# EAGLE library part DW1000-I (library DW1000-I)
The DW1000 is a fully integrated single chip Ultra Wideband (UWB) low-power low-cost transceiver IC compliant to IEEE802.15.4-2011. It can be used in 2-way ranging or TDOA location systems to locate assets to a precision of 10 cm. It also supports data transfer at rates up to 6.8 Mbps
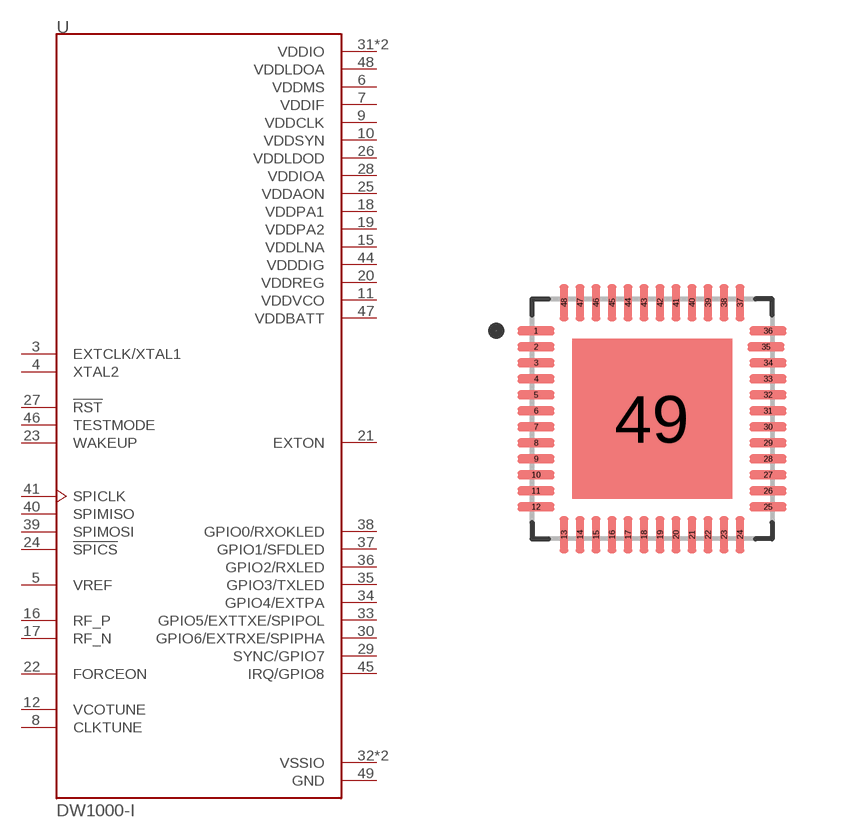
[diagram p0: symbol with the pads of QFN40P600X600X90-49N; footprint QFN40P600X600X90-49N]

Designator prefix U

## DW1000-I (Availability: Unavailable; Description: Ic Rf Txrx 802.15.4 48-Qfn; MF: Decawave Limited; MP: DW1000-I; Package: QFN-48 Decawave; Price: None)  [QFN40P600X600X90-49N]
3  EXTCLK/XTAL1  in
4  XTAL2  in
5  VREF
6  VDDMS  pwr
7  VDDIF  pwr
8  CLKTUNE
9  VDDCLK  pwr
10  VDDSYN  pwr
11  VDDVCO  pwr
12  VCOTUNE
15  VDDLNA  pwr
16  RF_P
17  RF_N
18  VDDPA1  pwr
19  VDDPA2  pwr
20  VDDREG  pwr
21  EXTON  out
22  FORCEON
23  WAKEUP  in
24  !SPICS  in
25  VDDAON  pwr
26  VDDLDOD  pwr
27  !RST
28  VDDIOA  pwr
29  SYNC/GPIO7
30  GPIO6/EXTRXE/SPIPHA
31  VDDIO  pwr
32  VSSIO  pwr
33  GPIO5/EXTTXE/SPIPOL
34  GPIO4/EXTPA
35  GPIO3/TXLED
36  GPIO2/RXLED
37  GPIO1/SFDLED
38  GPIO0/RXOKLED
39  SPIMOSI  in
40  SPIMISO  out
41  SPICLK  in
42  VDDIO  pwr
43  VSSIO  pwr
44  VDDDIG  pwr
45  IRQ/GPIO8
46  TESTMODE  in
47  VDDBATT  pwr
48  VDDLDOA  pwr
49  GND  pwr

## Footprint QFN40P600X600X90-49N (pad centres in mm)
smd 0.91 x 0.22: 1 -2.9,2.2; 2 -2.9,1.8; 3 -2.9,1.4; 4 -2.9,1; 5 -2.9,0.6; 6 -2.9,0.2; 7 -2.9,-0.2; 8 -2.9,-0.6; 9 -2.9,-1; 10 -2.9,-1.4; 11 -2.9,-1.8; 12 -2.9,-2.2; 25 2.9,-2.2; 26 2.9,-1.8; 27 2.9,-1.4; 28 2.9,-1; 29 2.9,-0.6; 30 2.9,-0.2; 31 2.9,0.2; 32 2.9,0.6; 33 2.9,1; 34 2.9,1.4; 35 2.85,1.8; 36 2.9,2.2
smd 0.22 x 0.91: 13 -2.2,-2.9; 14 -1.8,-2.9; 15 -1.4,-2.9; 16 -1,-2.9; 17 -0.6,-2.9; 18 -0.2,-2.9; 19 0.2,-2.9; 20 0.6,-2.9; 21 1,-2.9; 22 1.4,-2.9; 23 1.8,-2.9; 24 2.2,-2.9; 37 2.2,2.9; 38 1.8,2.9; 39 1.4,2.9; 40 1,2.9; 41 0.6,2.9; 42 0.2,2.9; 43 -0.2,2.9; 44 -0.6,2.9; 45 -1,2.9; 46 -1.4,2.9; 47 -1.8,2.9; 48 -2.2,2.9
smd 4 x 4: 49 0,0